# Altium footprint library WP75xx 2 no usb_v.PCBLIB: 32 footprints (part 1 of 2)
Each footprint in its own frame and in the unit in brackets; x right, y up, seen from the top. Pads: shape width x height; smd on the part's side, far side on the other; paste and mask are expansions set on the pad; w line width, h text height; cw(c..) or ccw(c..) is an arc to the next point about the centre after c.
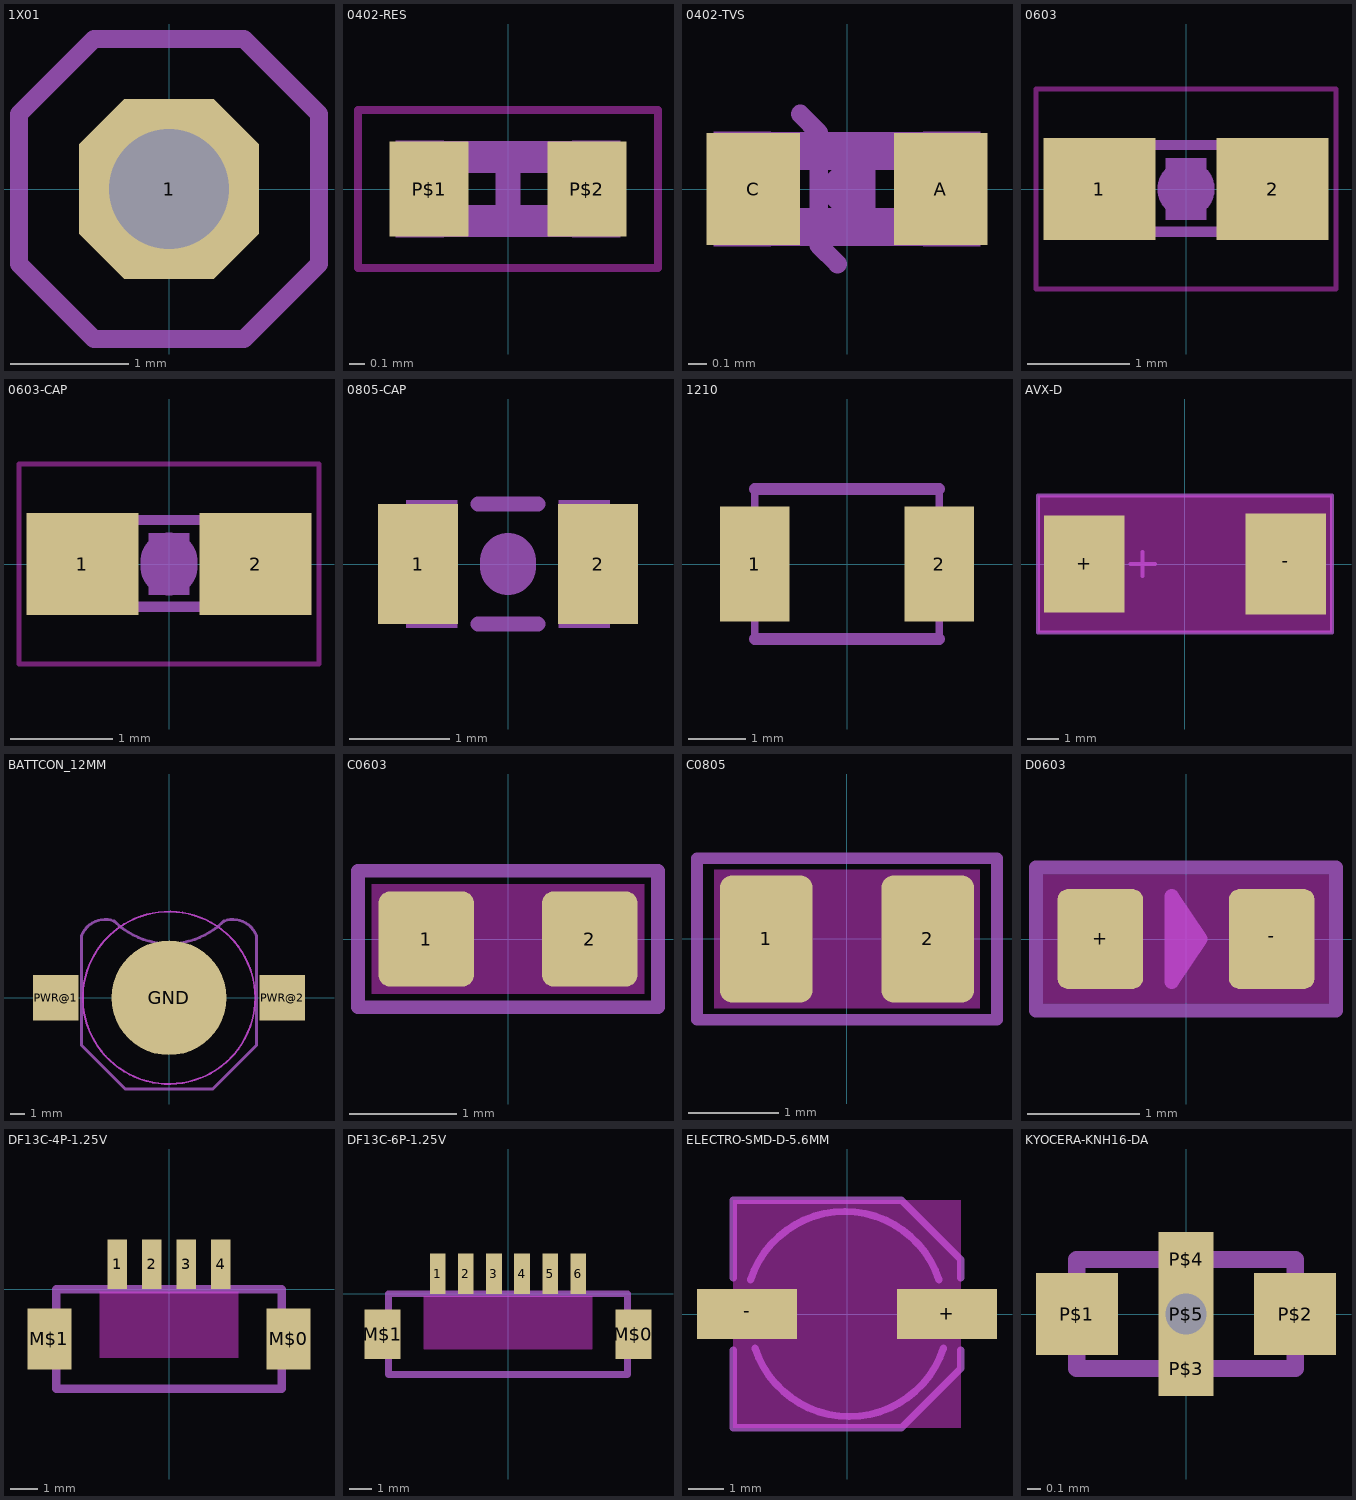
[diagram p0: the footprints below, top view; thin cyan lines are the x and y axes]

## 1X01 [mil]
pads (1):
  oct 60x60 / inner round 55.43 / far side oct 60x60 hole 40: 1(0,0)
Mechanical 3:
  region: -10,-10 -10,10 10,10 10,-10
Mechanical 7:
  lines w6: -50,-25 -50,25 -25,50 25,50 50,25 50,-25 25,-50 -25,-50 -50,-25

## 0402-RES [mil]
pads (2):
  rect 19.69x23.62 smd: P$1(-19.69,0) P$2(19.69,0)
Top Layer keep-out:
  lines w2: -37.4,-19.69 37.4,-19.69 37.4,19.69 -37.4,19.69 -37.4,-19.69
Mechanical 3:
  region: -28,-12 -28,12 -16,12 -16,-12
  region: 16,-12 16,12 28,12 28,-12
  lines w8: -20,-8 20,-8 ; -20,8 20,8
Mechanical 7:
  region: -3,-11.81 -3,11.81 3,11.81 3,-11.81
Mechanical 25:
  lines w0.02: -23.62,-11.81 23.62,-11.81 23.62,11.81 -23.62,11.81 -23.62,-11.81

## 0402-TVS [mil]
pads (2):
  rect 19.69x23.62 smd: A(19.69,0) C(-19.69,0)
Mechanical 3:
  region: -28,-12 -28,12 -16,12 -16,-12
  region: 16,-12 16,12 28,12 28,-12
  lines w8: -20,-8 20,-8 ; -20,8 20,8
Mechanical 7:
  lines w3.94: -9.84,15.75 -5.91,11.81 -5.91,-11.81 -1.97,-15.75
  lines w6: -3,0 3,6 3,0 ; -3,0 3,-6 3,0 ; -3,0 3,0

## 0603 [mm]
pads (2):
  rect 1.1x1 smd: 1(-0.85,0) 2(0.85,0)
Top Layer keep-out:
  lines w0.051: -1.473,-0.983 1.473,-0.983 1.473,0.983 -1.473,0.983 -1.473,-0.983
Mechanical 3:
  region: -0.838,-0.47 -0.838,0.48 -0.338,0.48 -0.338,-0.47
  region: 0.33,-0.47 0.33,0.48 0.83,0.48 0.83,-0.47
  lines w0.102: -0.356,-0.419 0.356,-0.419 ; -0.356,0.432 0.356,0.432
Mechanical 7:
  circle w0.127: c0,0 r0.127
  circle w0.127: c0,0 r0.025
  circle w0.127: c0,0 r0.218
Top Glue Points:
  region: -0.2,-0.3 -0.2,0.3 0.2,0.3 0.2,-0.3

## 0603-CAP [mm]
pads (2):
  rect 1.1x1 smd: 1(-0.85,0) 2(0.85,0)
Top Layer keep-out:
  lines w0.051: -1.473,-0.983 1.473,-0.983 1.473,0.983 -1.473,0.983 -1.473,-0.983
Mechanical 3:
  region: -0.838,-0.47 -0.838,0.48 -0.338,0.48 -0.338,-0.47
  region: 0.33,-0.47 0.33,0.48 0.83,0.48 0.83,-0.47
  lines w0.102: -0.356,-0.419 0.356,-0.419 ; -0.356,0.432 0.356,0.432
Mechanical 7:
  lines w0.559: 0,-0.03 0,0.03
Top Glue Points:
  region: -0.2,-0.3 -0.2,0.3 0.2,0.3 0.2,-0.3

## 0805-CAP [mil]
pads (2):
  rect 31.5x47.24 smd: 1(-35.43,0) 2(35.43,0)
Mechanical 3:
  region: 20,-25 20,25 40,25 40,-25
  region: -20,25 -20,-25 -40,-25 -40,25
Mechanical 7:
  lines w6: -11.81,-23.62 11.81,-23.62 ; -11.81,23.62 11.81,23.62
  lines w22: 0,-1.2 0,1.2

## 1210 [mm]
pads (2):
  rect 1.2x2 smd: 1(-1.6,0) 2(1.6,0)
Mechanical 3:
  lines w0.127: -1.6,-1.3 1.6,-1.3 1.6,1.3 -1.6,1.3 -1.6,-1.3
Mechanical 7:
  lines w0.203: -1.6,-1.3 1.6,-1.3 ; -1.6,1.3 1.6,1.3

## AVX-D [mil]
pads (2):
  rect 100x120 smd: +(-125,0)
  rect 100x125 smd: -(125,0)
Top Layer keep-out:
  region: -182.5,-85 -182.5,85 182.5,85 182.5,-85
Mechanical 7:
  lines w5: -67.5,0 -37.5,0 ; -52.5,-15 -52.5,15 ; -182.5,-85 182.5,-85 182.5,85 -182.5,85 -182.5,-85

## BATTCON_12MM [mil]
pads (3):
  rrect100% 314.96x314.96 smd paste+0: GND(0,0)
  rect 125x125 smd: PWR@1(-310,0) PWR@2(310,0)
Top Layer keep-out:
  circle w5: c0,0 r236.22
Top Paste:
  circle w78.74: c0,0 r39.37
Mechanical 3:
  circle w5: c0,0 r236.22
Mechanical 7:
  lines w8: -240,-130 -120,-250 120,-250 240,-130 240,170 ccw(c175,145) 150,210 cw(c0,360) -150,210 ccw(c-175,145) -240,170 -240,-130

## C0603 [mil]
pads (2):
  rrect25% 35x35 smd: 1(-30,0) 2(30,0)
Top Layer keep-out:
  region: -50,-20 -50,20 50,20 50,-20
Mechanical 7:
  lines w5: -55,-25 55,-25 55,25 -55,25 -55,-25

## C0805 [mil]
pads (2):
  rrect25% 40x55 smd: 1(-35,0) 2(35,0)
Top Layer keep-out:
  region: -57.5,-30 -57.5,30 57.5,30 57.5,-30
Mechanical 7:
  lines w5: -65,-35 65,-35 65,35 -65,35 -65,-35

## D0603 [mil]
pads (2):
  rrect25% 30x35 smd: +(-30,0) -(30,0)
Top Layer keep-out:
  region: -50,-22.5 -50,22.5 50,22.5 50,-22.5
Mechanical 7:
  lines w5: -2.5,-10 -2.5,10 ; 0,-7.5 -5,-15 -5,15 0,7.5 ; 0,-7.5 5,0 0,7.5 ; 0,-7.5 0,7.5 ; -52.5,-25 52.5,-25 52.5,25 -52.5,25 -52.5,-25

## DF13C-4P-1.25V [mil]
pads (6):
  rect 27.56x70.87 smd: 1(-73.82,35.43) 2(-24.61,35.43) 3(24.61,35.43) 4(73.82,35.43)
  rect 62.99x86.61 smd: M$0(170.28,-70.87) M$1(-170.28,-70.87)
Top Layer keep-out:
  region: -98.43,-97.44 -98.43,-3.94 98.43,-3.94 98.43,-97.44
Mechanical 7:
  lines w12: -160.43,-141.73 160.43,-141.73 160.43,0 -160.43,0 -160.43,-141.73
  text "." at -136.81,60.04 h155

## DF13C-6P-1.25V [mil]
pads (8):
  rect 27.56x70.87 smd: 1(-123.03,35.43) 2(-73.82,35.43) 3(-24.61,35.43) 4(24.61,35.43) 5(73.82,35.43) 6(123.03,35.43)
  rect 62.99x86.61 smd: M$0(219.49,-70.87) M$1(-219.49,-70.87)
Top Layer keep-out:
  region: -147.64,-97.44 -147.64,-3.94 147.64,-3.94 147.64,-97.44
Mechanical 7:
  lines w12: -209.65,-141.73 209.65,-141.73 209.65,0 -209.65,0 -209.65,-141.73
  text "." at -186.02,60.04 h155

## ELECTRO-SMD-D-5.6MM [mil]
pads (2):
  rect 110x55 smd: +(110,0) -(-110,0)
Top Layer keep-out:
  region: -125,-125 -125,125 125,125 125,-125
Mechanical 7:
  lines w8: -125,-40 -125,-125 60,-125 125,-60 125,-40 ; -125,40 -125,125 60,125 125,60 125,40 ; -106.14,37.4 cw(c-2.5,3.94) 101.14,37.4 ; -101.14,-37.4 ccw(c2.5,-3.94) 106.14,-37.4

## KYOCERA-KNH16-DA [mil]
pads (5):
  rect 23.62x23.62 smd: P$1(-31.5,0) P$2(31.5,0)
  rect 15.75x15.75 smd: P$3(0,-15.75) P$4(0,15.75)
  rect 15.75x15.75 / inner round 14.55 / far side rect 15.75x15.75 hole 11.81: P$5(0,0)
Mechanical 7:
  lines w5: -31.5,-15.75 -31.5,15.75 31.5,15.75 31.5,-15.75 -31.5,-15.75